# EAGLE library part RX-BC-NBK433 (library #PaJa_30_scr)
Modul prijimace AUREL - 433,92 MHz
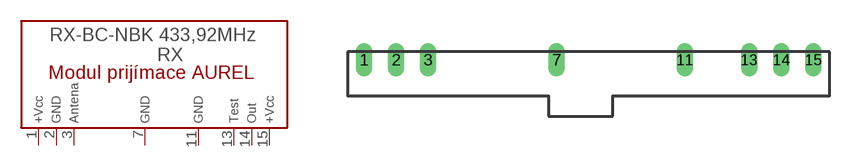
[diagram p48: symbol with the pads of RX-BC-NB; footprint RX-BC-NB]

Designator prefix RX

## RX-BC-NBK433  [RX-BC-NB]
1  VCC  pwr
2  GND  pwr
3  ANTENA  pas
7  GND  pwr
11  GND  pwr
13  MER_BOD  pas
14  OUT  out
15  VCC  pwr

## Footprint RX-BC-NB (pad centres in mm)
Modul prijimace AUREL - 433,92 MHz
drill 0.813 pad 1.27 long: 1 -17.78,0; 2 -15.24,0; 3 -12.7,0; 7 -2.54,0; 11 7.62,0; 13 12.7,0; 14 15.24,0; 15 17.78,0